# Altium footprint library TFT-ST7735.PcbLib: 1 footprints
Each footprint in its own frame and in the unit in brackets; x right, y up, seen from the top. Pads: shape width x height; smd on the part's side, far side on the other; paste and mask are expansions set on the pad; w line width, h text height; cw(c..) or ccw(c..) is an arc to the next point about the centre after c.
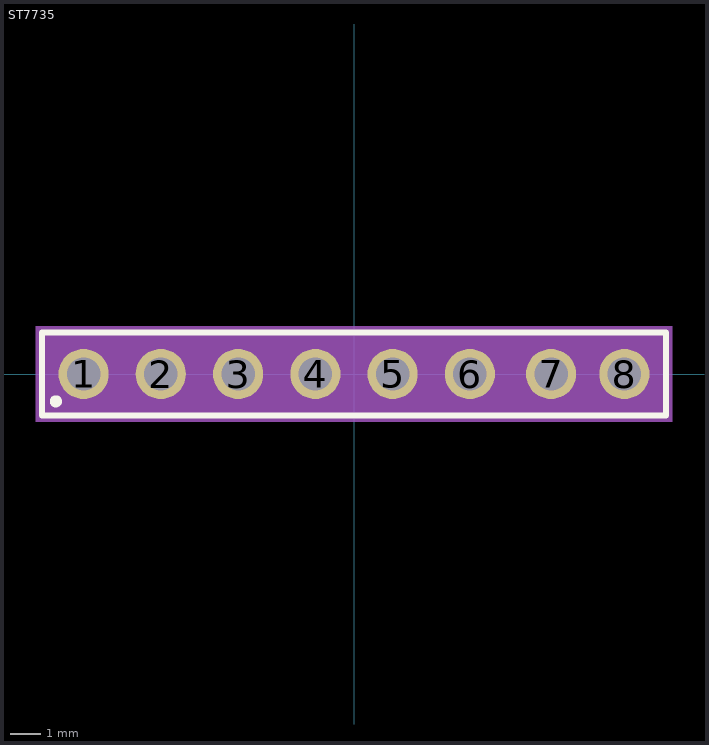
[diagram p0: the footprint, top view; thin cyan lines are the x and y axes]

## ST7735 [mm] "1.8 inches 128x160 RGB TFT LCD - ST7735 DRIVER"
pads (8):
  round 1.65 hole 1.1: 1(-8.89,0) 2(-6.35,0) 3(-3.81,0) 4(-1.27,0) 5(1.27,0) 6(3.81,0) 7(6.477,0) 8(8.89,0)
Top Overlay:
  circle w0.2: c-9.8,-0.9 r0.1
  lines w0.2: -10.26,-1.37 10.26,-1.37 10.26,1.37 -10.26,1.37 -10.26,-1.37
Mechanical 13:
  lines w0.1: -10.16,-1.27 -10.16,1.27 10.16,1.27 10.16,-1.27 -10.16,-1.27
Mechanical 15:
  region: 10.46,-1.57 -10.46,-1.57 -10.46,1.57 10.46,1.57
3D body "step_temp.STEP": height 5.57, standoff -5.97, extent -10.16,-1.27 10.16,1.27
3D body "1.8_inches_128x160_RGB_TFT_LCD.stp": height 6.75, standoff 2.5, extent -17.5,-54.476 17.5,1.524